# Altium integrated library esp32-s3-can-interface.IntLib: 4 symbols
Pins are listed as number, name and electrical type; pins without a type are passive.

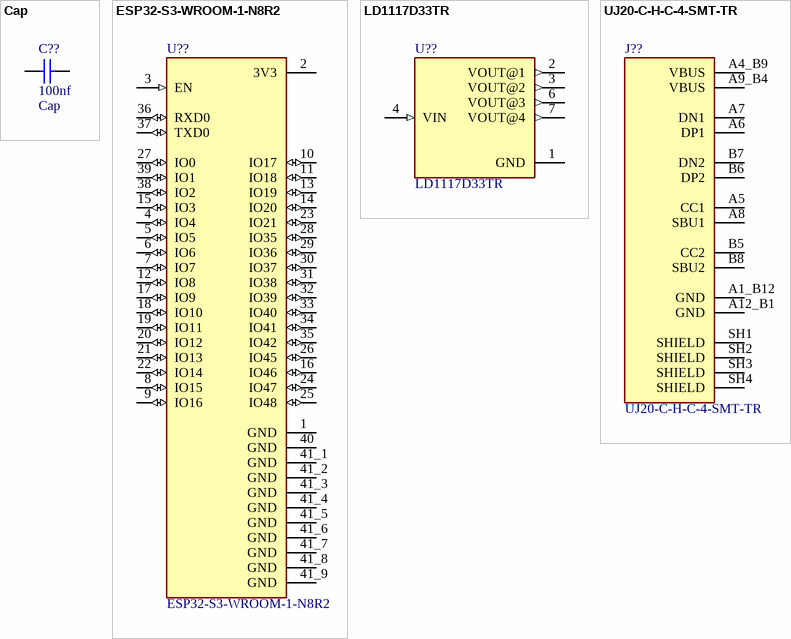
[diagram p0: symbols Cap to UJ20-C-H-C-4-SMT-TR]

## Cap
designator C??  value 100nf
Capacitor; Published: 8-Jun-2000; LatestRevisionDate: 17-Jul-2002; LatestRevisionNote: Re-released for DXP Platform.; PackageReference: RAD-0.3; Publisher: Altium Limited; PackageDescription: Radial Cap, Thru-Hole; 2 Leads; 0.3 in Pin Spacing
footprint RAD-0.3 (Radial Cap, Thru-Hole; 2 Leads; 0.3 in Pin Spacing)
simulation model CAP (Capacitor)
signal-integrity model Cap
pins: 1, 2

## ESP32-S3-WROOM-1-N8R2
designator U??
WiFi 802.11a/b/g/n, Bluetooth v5.0 Transceiver Module 2.4GHz Antenna Not Included -; MF: Espressif Systems; Package: - Espressif Systems; Price: None; Check_prices: https://www.snapeda.com/parts/ESP32-S3-WROOM-1-N8R2/Espressif+Systems/view-part/?ref=eda; Value: *; SnapEDA_Link: https://www.snapeda.com/parts/ESP32-S3-WROOM-1-N8R2/Espressif+Systems/view-part/?ref=snap; MP: ESP32-S3-WROOM-1-N8R2; Availability: In Stock; Purchase-URL: https://pricing.snapeda.com/search?q=ESP32-S3-WROOM-1-N8R2&ref=eda
footprint XCVR_ESP32-S3-WROOM-1-N8R2
pins: 1 GND (power), 2 3V3 (power), 3 EN (in), 4 IO4 (io), 5 IO5 (io), 6 IO6 (io), 7 IO7 (io), 8 IO15 (io), 9 IO16 (io), 10 IO17 (io), 11 IO18 (io), 12 IO8 (io), 13 IO19 (io), 14 IO20 (io), 15 IO3 (io), 16 IO46 (io), 17 IO9 (io), 18 IO10 (io), 19 IO11 (io), 20 IO12 (io), 21 IO13 (io), 22 IO14 (io), 23 IO21 (io), 24 IO47 (io), 25 IO48 (io), 26 IO45 (io), 27 IO0 (io), 28 IO35 (io), 29 IO36 (io), 30 IO37 (io), 31 IO38 (io), 32 IO39 (io), 33 IO40 (io), 34 IO41 (io), 35 IO42 (io), 36 RXD0 (io), 37 TXD0 (io), 38 IO2 (io), 39 IO1 (io), 40 GND (power), 41_1 GND (power), 41_2 GND (power), 41_3 GND (power), 41_4 GND (power), 41_5 GND (power), 41_6 GND (power), 41_7 GND (power), 41_8 GND (power), 41_9 GND (power)

## LD1117D33TR
designator U??
Linear Voltage Regulator IC Positive Fixed 1 Output 800mA 8-SOIC; MF: STMicroelectronics; SnapEDA_Link: https://www.snapeda.com/parts/LD1117D33TR/STMicroelectronics/view-part/?ref=snap; Package: SO-8 STMicroelectronics; Value: *; MP: LD1117D33TR; Check_prices: https://www.snapeda.com/parts/LD1117D33TR/STMicroelectronics/view-part/?ref=eda
footprint SOIC127P600X175-8N
pins: 1 GND (power), 2 VOUT@1 (out), 3 VOUT@2 (out), 4 VIN (in), 6 VOUT@3 (out), 7 VOUT@4 (out)

## UJ20-C-H-C-4-SMT-TR
designator J??
Package: None; Price: None; Value: *; MP: UJ20-C-H-C-4-SMT-TR; Availability: Unavailable
footprint CUI_UJ20-C-H-C-4-SMT-TR
pins: A1_B12 GND, A4_B9 VBUS, A5 CC1, A6 DP1, A7 DN1, A8 SBU1, A9_B4 VBUS, A12_B1 GND, B5 CC2, B6 DP2, B7 DN2, B8 SBU2, SH1 SHIELD, SH2 SHIELD, SH3 SHIELD, SH4 SHIELD